# Altium integrated library spectral_clock.IntLib: 16 symbols
Pins are listed as number, name and electrical type; pins without a type are passive.

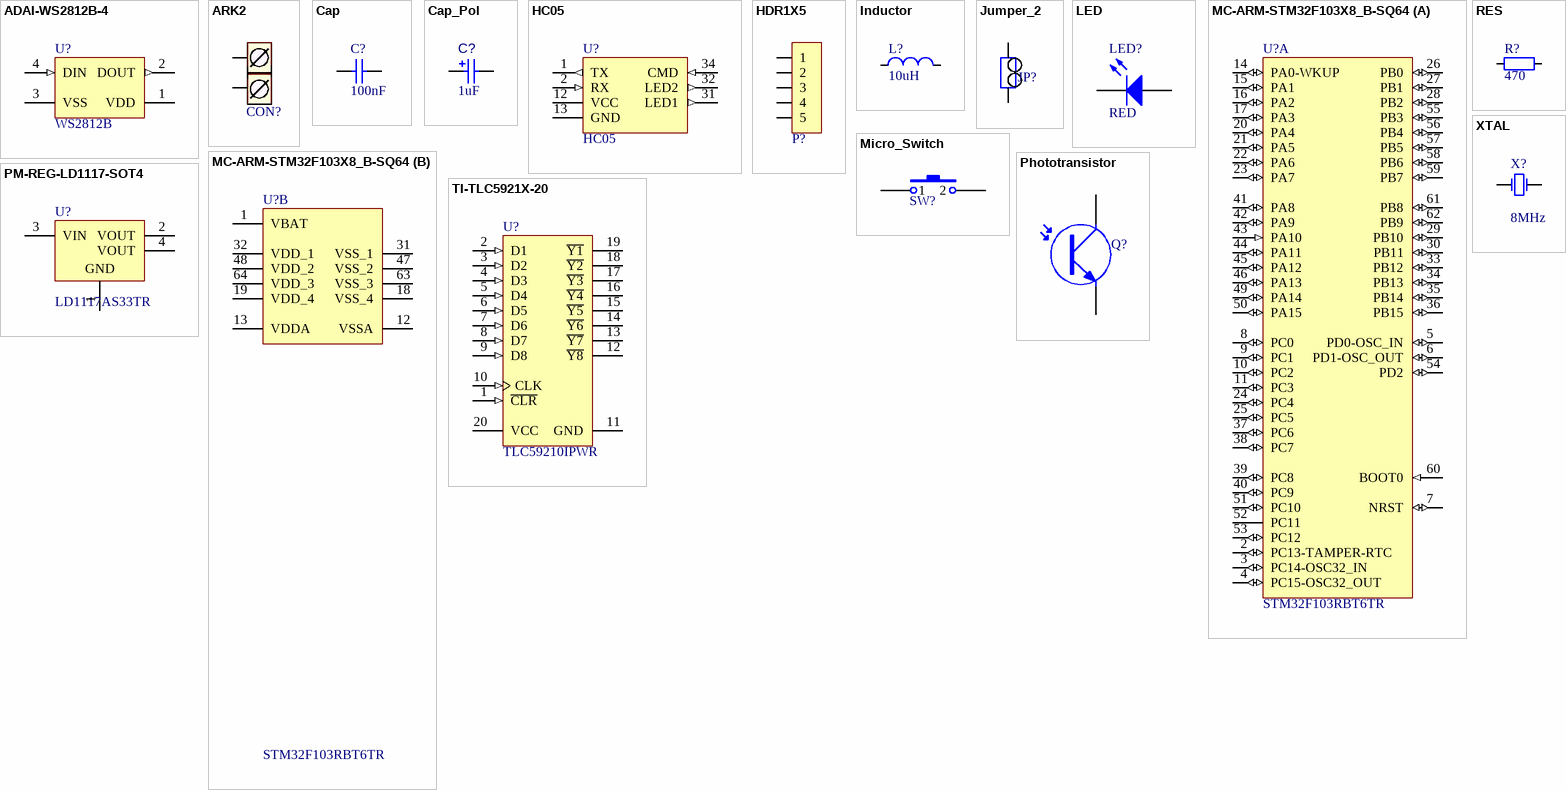
[diagram p0: symbols ADAI-WS2812B-4 to XTAL]

## ADAI-WS2812B-4
designator U?, comment WS2812B
Intelligent Control LED Integrated Light Source, 3.5 to 5.3 V, -25 to 80 degC, 4-Pin SMD, RoHS, Bulk; Case\Package: Radial; Shielding: Unshielded; Current Rating: 240 mA; Tolerance: 10%; Mount: Through Hole; Max Operating Temperature: 125 degC; Radiation Hardening: No; Length: 12.2 mm; Min Operating Temperature: -55 degC; ComponentLink1URL: https://www.adafruit.com/; Packaging: Bulk; Lead Pitch: 5 mm; RoHSCompliant: true; Pins: 2; Package Quantity: 200; ComponentLink2URL: https://cdn-shop.adafruit.com/datasheets/WS2812B.pdf; ComponentLink2Description: Datasheet; PackageDescription: 4-Pin Surface Mount Device, Body 5 x 5 mm, Pitch 3.3 mm; PackageReference: WS2812B; Height: 12.2 mm; REACH SVHC: No SVHC; ComponentLink1Description: Manufacturer URL; DatasheetVersion: May-13
footprint ADAI-WS2812B_V (SMD, 4-Leads, Body 5x5mm, Pitch 3.3mm)
pins: 1 VDD (power) "Power supply LED", 2 DOUT (out) "Control data signal output", 3 VSS (power) "Ground", 4 DIN (in) "Control data signal input"

## ARK2
designator CON?  (value not drawn)
Złącze śrubowe 2 piny
footprint ARK2
pins: 1, 2

## Cap
designator C?  value 100nF  (hidden comment: Cap)
Ceramic capacitor; Unit Price1: *; Unit Price2: *
footprint 0805_CAP
footprint CAP_THT_5.0 (Kondensator ceramiczny z rozstawem wyprowadzeń 5mm)
footprint 0603_CAP
footprint 1210_CAP
footprint 0402_CAP (CAP 0402)
footprint CAP_THT_2.5 (Kondensator ceramiczny z rozstawem wyprowadzeń 2.5mm)
pins: 1, 2

## Cap_Pol
designator C?, comment 1uF
Polar capacitor; Value: 1uF
footprint Con_SMD_4x5 (SMD electrolytic capacitor)
footprint Con_SMD_5x5.5 (SMD electrolytic capacitor)
footprint Con_SMD_6.3x5.5 (SMD electrolytical capacitor)
footprint Con_SMD_8x10_5 (Base 8,2mm height 10mm, 220uF, 35V AD6)
footprint Cap_THT_5x11
footprint Cap_THT_6x11
footprint Cap_THT_10x20
footprint B_CAP
footprint Cap_THT_5x7x2_5 (Cap_THT_5x11)
footprint CAPAE3333X55M (Aluminum Electrolytic Capacitor, Body 3,30x3,30x5,50mm)
footprint CAP_POL_3216-18 (Tantalum capacitor 3216 Case-A)
footprint SMA_tantal (Solid Tantalum Surface Mount Capacitors)
footprint SMB_tantal (Solid Tantalum Surface Mount Capacitors)
footprint SMC_tantal (Solid Tantalum Surface Mount Capacitors)
footprint SMD_tantal (Solid Tantalum Surface Mount Capacitors)
pins: 1, 2
2 alternate drawings of the same symbol

## HC05
designator U?
Bluetooth to Serial Port Module
footprint HC05 (Bluetooth to Serial Port Module)
pins: 1 TX (out), 2 RX (in), 12 VCC (power), 13 GND (power), 31 LED1 (out), 32 LED2 (out), 34 CMD (in)

## HDR1X5
designator P?  (value not drawn)
Header, 5-Pin; LatestRevisionDate: 17-Jul-2002; LatestRevisionNote: Re-released for DXP Platform.; Publisher: Altium Limited
footprint HDR1X5 (Connector; Header; 5 Position)
pins: 1, 2, 3, 4, 5

## Inductor
designator L?, comment 10uH
Code_IEC: 1005; Published: 8-Jun-2000; LatestRevisionDate: 29-May-2009; LatestRevisionNote: IPC-7351 Footprint Added.; PackageReference: 0402-A; Publisher: Altium Limited; PackageDescription: Chip Inductor; Code_JEITA: 0402; Value: 10uH
footprint DO5040
footprint 0603_IND
footprint 0805_IND ((2012 metric))
footprint 1206_IND (3216(metric))
footprint DE_0703
footprint 1040 SMD Power Inductor WE-LHMI (Molded Inductor, 2-Leads, Body 10,00x10,00mm, IPC Medium Density)
footprint SRR6028 (SRR6028 Series - Shielded SMD Power Inductors)
footprint SRR1260 (SRR1260 Series - Shielded SMD Power Inductors)
footprint XAL40xx (Shielded Power Inductors – XAL40xx)
pins: 1, 2

## Jumper_2
designator JP?, comment Jumper  (value not drawn)
Jumper, 2-Pin
footprint HDR1X2 - JP (Connector; Header; 2 Position, Jumper)
footprint solder_jumper
pins: 1, 2

## LED
designator LED?, comment RED
Light-emitting diode; COLOR: RED
footprint 0805_DIODE
footprint LED_THT_RED
footprint LED_THT_BLUE
footprint LED_THT_GREEN
footprint LED_THT_YELLOW
footprint LED_THT_3mm
footprint 0603_led_blue
footprint 0603_led_green
footprint 0603_led_orange
footprint 0603_led_red
footprint 0603_led_yellow
footprint 0805_led_blue
footprint 0805_led_green
footprint 0805_led_orange
footprint 0805_led_red
footprint 0805_led_yellow
pins: 1 A, 2 K

## MC-ARM-STM32F103X8_B-SQ64
designator U?, comment STM32F103RBT6TR
ARM Cortex-M3 32-bit MCU, 128 KB Flash, 20 KB Internal RAM, 51 I/Os, 64-pin LQFP, -40 to 85 degC, Tape and Reel; Operating Frequency(F) (Processor speed) (MHz): 72; Internal RAM Size (kB): 20; I/Os (High Current): 51; FLASH Size (Prog) (kB): 128; Supply Voltage(Vcc) min (V): 2; A/D Converter: 2x12-bit (16 Channel); ComponentLink3URL: http://www.st.com/st-web-ui/static/active/en/resource/technical/document/datasheet/DM00037051.pdf; ComponentLink2Description: Datasheet; PackageDescription: 64-Pin Low Profile Quad Flat Package, 10 x 10 mm Body, 0.5 mm Pitch; ComponentLink3Description: Package Specification; Mounting Technology: Surface Mount; ComponentLink1Description: Manufacturer URL; DatasheetVersion: Rev. 16; PackageReference: LQFP64; PartNumber: STM32F103RBT6TR; Core: ARM Cortex-M3; ComponentLink2URL: http://www.st.com/st-web-ui/static/active/en/resource/technical/document/datasheet/CD00161566.pdf; ComponentLink1URL: http://www.st.com/web/en/home.html; PackageVersion: Rev. 4, 06/2013; Packing: Tape and Reel
footprint STM-LQFP64_V (Thin QFP, 64-Leads, Body 10x10mm, Pitch 0.5mm, ST Recommended)
part A pins: 2 PC13-TAMPER-RTC (io) "PC13-TAMPER-RTC/PC13/TAMPER-RTC", 3 PC14-OSC32_IN (io) "PC14-OSC32_IN/PC14/OSC32_IN", 4 PC15-OSC32_OUT (io) "PC15-OSC32_OUT/PC15/OSC32_OUT", 5 PD0-OSC_IN (io) "PD0/OSC_IN", 6 PD1-OSC_OUT (io) "PD1/OSC_OUT", 7 NRST (io), 8 PC0 (io) "PC0/ADC12_IN10", 9 PC1 (io) "PC1/ADC12_IN11", 10 PC2 (io) "PC2/ADC12_IN12", 11 PC3 (io) "PC3/ADC12_IN13", 14 PA0-WKUP (io) "PA0-WKUP/PA0/WKUP/USART2_CTS/ADC12_IN0/TIM2_CH1_ETR", 15 PA1 (io) "PA1/USART2_RTS/ADC12_IN1/TIM2_CH2", 16 PA2 (io) "PA2/USART2_TX/ADC12_IN2/TIM2_CH3", 17 PA3 (io) "PA3/USART2_RX/ADC12_IN3/TIM2_CH4", 20 PA4 (io) "PA4/SPI1_NSS/USART2_CK/ADC12_IN4", 21 PA5 (io) "PA5/SPI1_SCK/ADC12_IN5", 22 PA6 (io) "PA6/SPI1_MISO/ADC12_IN6/TIM3_CH1/TIM1_BKIN", 23 PA7 (io) "PA7/SPI1_MOSI/ADC12_IN7/TIM3_CH2/TIM1_CH1N", 24 PC4 (io) "PC4/ADC12_IN14", 25 PC5 (io) "PC5/ADC12_IN15", 26 PB0 (io) "PB0/ADC12_IN8/TIM3_CH3/TIM1_CH2N", 27 PB1 (io) "PB1/ADC12_IN9/TIM3_CH4/TIM1_CH3N", 28 PB2 (io) "PB2/BOOT1", 29 PB10 (io) "PB10/I2C2_SCL/USART3_TX/TIM2_CH3", 30 PB11 (io) "PB11/I2C2_SDA/USART3_RX/TIM2_CH4", 33 PB12 (io) "PB12/SPI2_NSS/I2C2_SMBAl/USART3_CK/TIM1_BKIN", 34 PB13 (io) "PB13/SPI2_SCK/USART3_CTS/TIM1_CH1N", 35 PB14 (io) "PB14/SPI2_MISO/USART3_RTS/TIM1_CH2N", 36 PB15 (io) "PB15/SPI2_MOSI/TIM1_CH3N", 37 PC6 (io) "PC6/TIM3_CH1", 38 PC7 (io) "PC7/TIM3_CH2", 39 PC8 (io) "PC8/TIM3_CH3", 40 PC9 (io) "PC9/TIM3_CH4", 41 PA8 (io) "PA8/USART1_CK/TIM1_CH1/MCO", 42 PA9 (io) "PA9/USART1_TX/TIM1_CH2", 43 PA10 (in) "PA10/USART1_RX/TIM1_CH3", 44 PA11 (io) "PA11/USART1_CTS/CANRX/USBDM/TIM1_CH4", 45 PA12 (io) "PA12/USART1_RTS/CANTX/USBDP/TIM1_ETR", 46 PA13 (io) "PA13/JTMS/SWDIO", 49 PA14 (io) "PA14/JTCK/SWCLK", 50 PA15 (io) "PA15/JTDI/TIM2_CH1_ETR/SPI1_NSS", 51 PC10 (io) "PC10/USART3_TX", 52 PC11 "PC11/USART3_RX", 53 PC12 (io) "PC12/USART3_CK", 54 PD2 (io) "PD2/TIM3_ETR", 55 PB3 (io) "PB3/JTDO/TIM2_CH2/TRACESWO/SPI1_SCK", 56 PB4 (io) "PB4/NJTRST/TIM3_CH1/SPI1_MISO", 57 PB5 (io) "PB5/I2C1_SMBAI/TIM3_CH2/SPI1_MOSI", 58 PB6 (io) "PB6/I2C1_SCL/TIM4_CH1/USART1_TX", 59 PB7 (io) "PB7/I2C1_SDA/TIM4_CH2/USART1_RX", 60 BOOT0 (in), 61 PB8 (io) "PB8/TIM4_CH3/I2C1_SCL/CANRX", 62 PB9 (io) "PB9/TIM4_CH4/I2C1_SDA/CANTX"
part B pins: 1 VBAT (power), 12 VSSA (power), 13 VDDA (power), 18 VSS_4 (power), 19 VDD_4 (power), 31 VSS_1 (power), 32 VDD_1 (power), 47 VSS_2 (power), 48 VDD_2 (power), 63 VSS_3 (power), 64 VDD_3 (power)

## Micro_Switch
designator SW?  (value not drawn)
Switch; Published: 24-Mar-1999; LatestRevisionDate: 17-Jul-2002; LatestRevisionNote: Re-released for DXP Platform.; PackageReference: SPST-2; Publisher: Altium Limited
footprint Micro_Switch (Micro Switch with 2 leads used)
footprint Tact 34N-F
footprint Micro_Switch_smd
pins: 1, 2

## Phototransistor
designator Q?  (value not drawn)
footprint LED_THT (Bended version of LED\Phototransistor)
footprint LED_THT_3mm
pins: 1 E, 2 C

## PM-REG-LD1117-SOT4
designator U?, comment LD1117AS33TR
1A, Low Drop Positive Voltage Regulator, 3.3V, 4-Pin SOT-223, Tape and Reel; ComponentLink1Description: Manufacturer URL; DatasheetVersion: 2/12/2011; PackageVersion: 2010; ComponentLink1URL: http://www.st.com; ComponentLink2Description: Datasheet; ComponentLink2URL: http://www.st.com/internet/com/TECHNICAL_RESOURCES/TECHNICAL_LITERATURE/DATASHEET/CD00002116.pdf; PackageDescription: 4-Pin SOT-223 Package, 6.5 x 3.5 mm Body, 2.3 mm Pitch, 7 mm Lead Span; PackageReference: SOT-223
footprint SOT-223_M (SOT223, 4-Leads, Body 6.5x3.5mm, Pitch 2.3mm, Lead Span 7mm, IPC Low Density)
footprint SOT-223_L (SOT223, 4-Leads, Body 6.5x3.5mm, Pitch 2.3mm, Lead Span 7mm, IPC High Density)
footprint SOT-223_N (SOT223, 4-Leads, Body 6.5x3.5mm, Pitch 2.3mm, Lead Span 7mm, IPC Medium Density)
pins: 1 GND (power), 2 VOUT (power), 3 VIN (power), 4 VOUT (power)

## RES
designator R?, comment 470
Resistior; Value: 470
footprint THT_AXIAL (General THT AXIAL element)
footprint R9x2.8 (Resistor, Axial; Body 10.5 x 3.3 mm (LxDia. max), Lead Dia. 0.7 mm (max))
footprint R6.3x2.5 (Resistor, Axial; Body 6.8 x 2.7 mm (LxDia. max), Lead Dia. 0.65 mm (max))
footprint 0805_RES ((2012 metric))
footprint 0603_RES
footprint 1206_RES (3216(metric))
footprint 2010_RES (Chip Resistor; Body 5 x 2.5 mm (LxW typ))
footprint 2512_RES (Chip Resistor; Body 6.4 x 3.2 mm (LxW typ))
footprint 0402_RES (RES 0402 1/16W)
pins: 1, 2
1 alternate drawing of the same symbol

## TI-TLC5921X-20
designator U?, comment TLC59210IPWR
8-Bit DMOS Sink Driver with Latch, 3 to 5.5 V, -40 to 85 degC, 20-pin SOP (PW20), Green (RoHS & no Sb/Br); Manufacturer: Texas Instruments; Vin(Max)(V): 5.5; SubFamily: LED Driver; Vin(Min)(V): 3; ComponentLink1Description: Manufacturer URL; ComponentLink3URL: http://www.ti.com.cn/cn/lit/ml/mpds362/mpds362.pdf; ComponentLink3Description: Package Specification; ComponentLink2Description: Datasheet; PartNumber: TLC59210IPWR; ComponentLink2URL: http://www.ti.com/general/docs/lit/getliterature.tsp?genericPartNumber=TLC59210&fileType=pdf; Mounting Technology: Surface Mount; DatasheetVersion: SCLS711; PackageDescription: 20-Pin Plastic Small Outline, Body 6.5 x 4.4 mm, 0.65 mm Pitch; Eco-Plan: Green (RoHS & no Sb/Br); PackageReference: PW0020A; ComponentLink1URL: http://www.ti.com/; PackageVersion: 4040064-5/G; Code_JEDEC: MO-153
footprint PW0020A_M (SOP, 20-Leads, Body 6.6x4.5mm, Pitch 0.65mm, IPC Low Density)
footprint PW0020A_L (SOP, 20-Leads, Body 6.6x4.5mm, Pitch 0.65mm, IPC High Density)
footprint PW0020A_N (SOP, 20-Leads, Body 6.6x4.5mm, Pitch 0.65mm, IPC Medium Density)
pins: 1 ~{CLR} (in), 2 D1 (in), 3 D2 (in), 4 D3 (in), 5 D4 (in), 6 D5 (in), 7 D6 (in), 8 D7 (in), 9 D8 (in), 10 CLK (in), 11 GND (power), 12 ~{Y8} (oc), 13 ~{Y7} (oc), 14 ~{Y6} (oc), 15 ~{Y5} (oc), 16 ~{Y4} (oc), 17 ~{Y3} (oc), 18 ~{Y2} (oc), 19 ~{Y1} (oc), 20 VCC (power)

## XTAL
designator X?  value 8MHz
Oscillator; Unit Price1: *; Unit Price2: *
footprint HC49/4H_SMX (Quartz Crystal, SM; Body 13.4 (inc. leads) x 4.9 mm (LxW max))
footprint HC49-4H_THT (HC49-4H package for oscillator)
footprint ATS-SM (ATS-SM Quartz Crystal footprint)
footprint 5.0mm x 3.2mm Glass Seal Package (Model 445 Surface Mount Quartz Crystal)
pins: 1 OSC1, 2 OSC2